# Altium integrated library TI Power Management Step-Up Regulator.IntLib: 226 symbols (part 1 of 11)
Pins are listed as number, name and electrical type; pins without a type are passive.

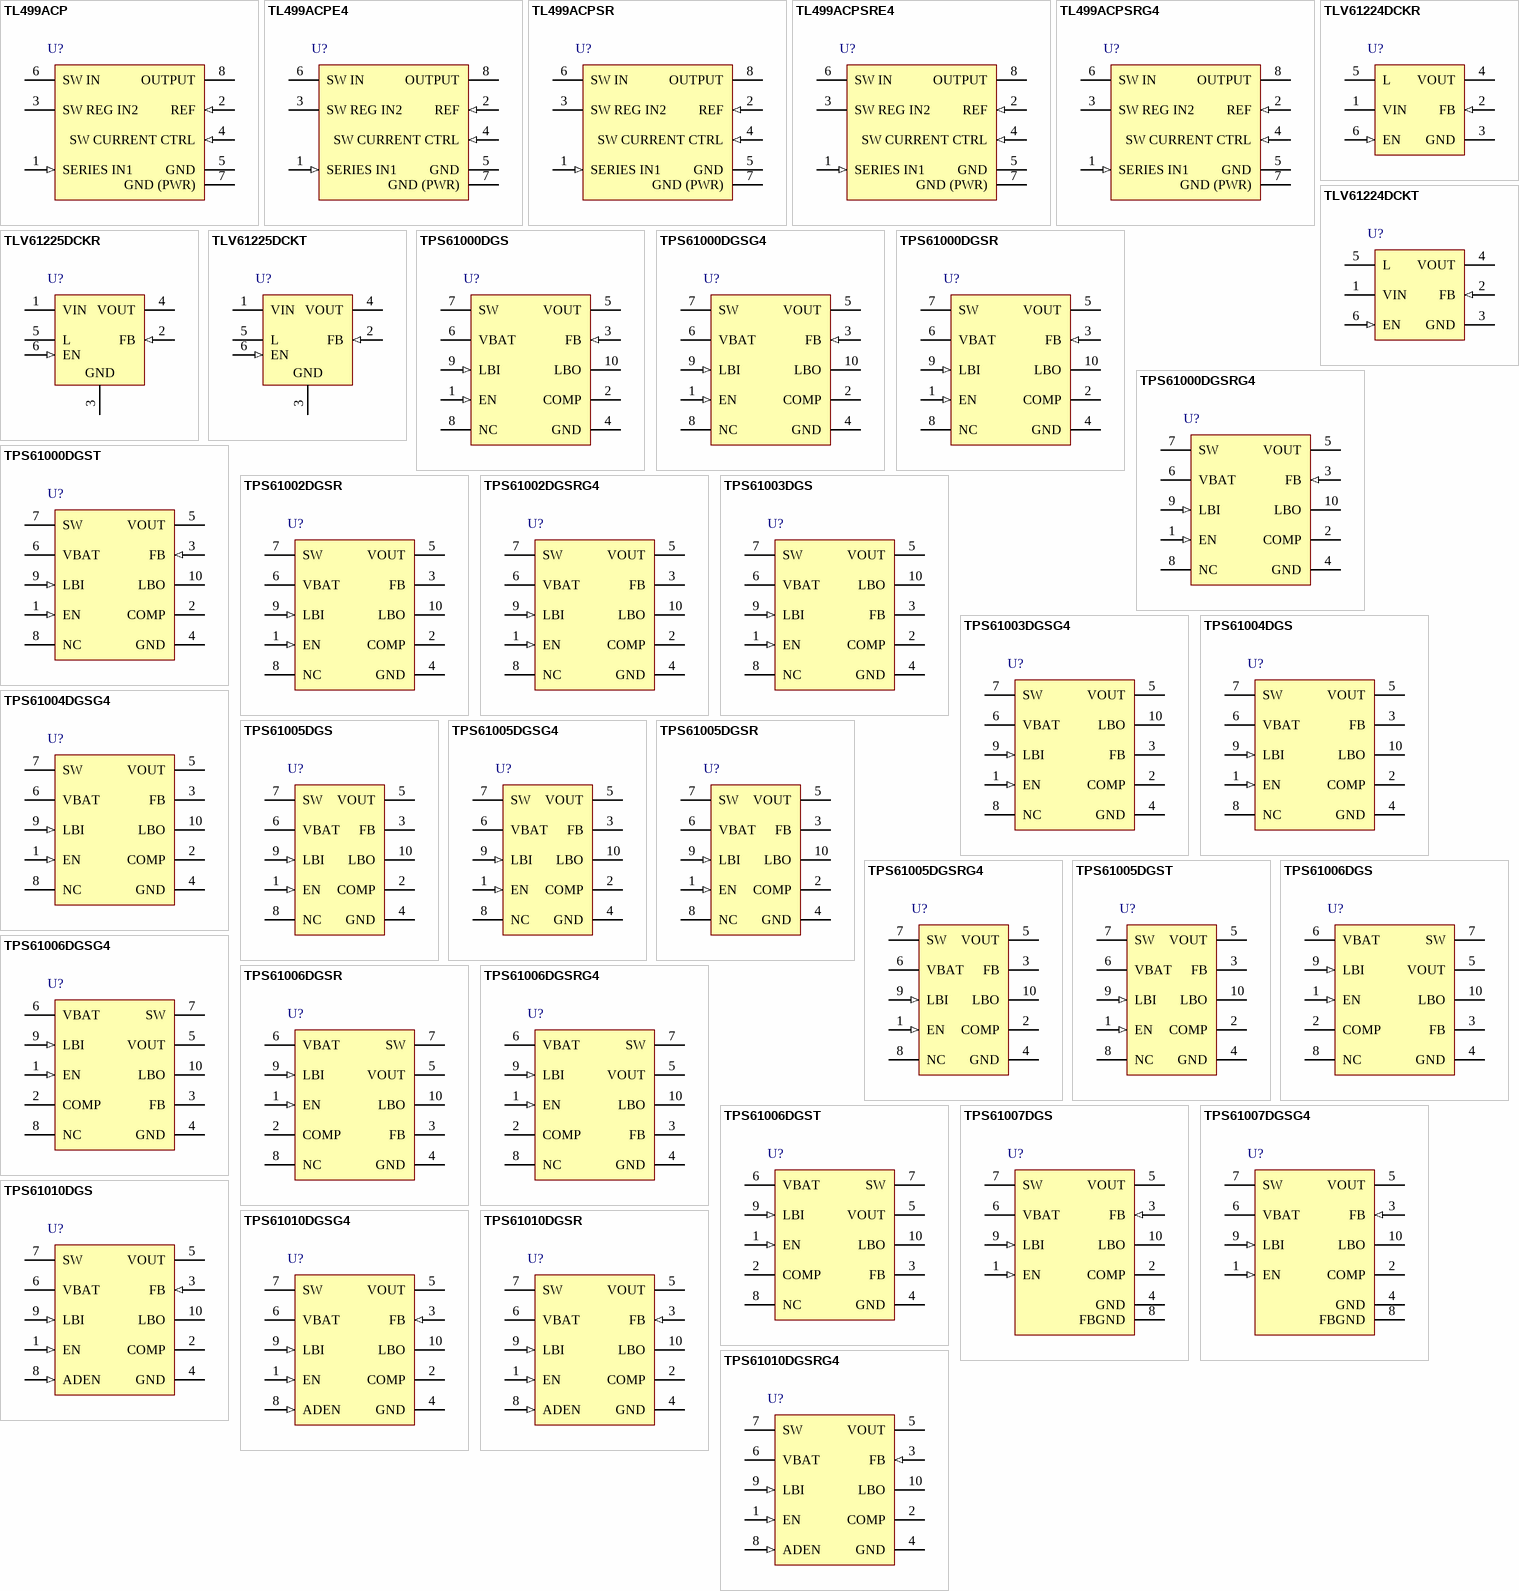
[diagram p0: symbols TL499ACP to TPS61010DGSRG4]

## TL499ACP
designator U?
Boost Supply Controller with 1.1 to 10 V Input and 2.9 to 30 V Output, -20 to 85 degC, 8-Pin PDIP (P), Pb-Free (RoHS); Manufacturer: Texas Instruments; PartNumber: TL499ACP; SubFamily: Step-Up Regulator; Vin(Max)(V): 10; Vin(Min)(V): 1.1; Vout(Max)(V): 30; Vout(Min)(V): 2.9; DatasheetVersion: SLVS029G; PackageVersion: revE, Apr-2010; PackageReference: P8; PackageDescription: 8-Pin Plastic Dual-In-Line Package, Row Spacing 7.62 mm, Pitch 2.54 mm; Supplier 1: Digi-Key; Supplier Part Number 1: TL499ACP-ND; Supplier 2: Newark; Supplier Part Number 2: 08F9464; Supplier 3: Mouser; Supplier Part Number 3: 595-TL499ACP; Eco-Plan: Pb-Free (RoHS); Topology: Boost; Mounting Technology: Through Hole; Code_JEDEC: MS-001-BA; ComponentLink1Description: Datasheet; ComponentLink1URL: http://www.ti.com/general/docs/lit/getliterature.tsp?genericPartNumber=TL499A&fileType=pdf; ComponentLink2Description: Package Specification; ComponentLink2URL: http://www.ti.com/lit/ml/mpdi001b/mpdi001b.pdf
footprint P8 (DIP, 8-Leads, Row Spacing 7.62mm, Pitch 2.54mm, Body 9.6x6.4mm)
pins: 1 SERIES IN1 (in), 2 REF (in), 3 SW REG IN2 (power), 4 SW CURRENT CTRL (in), 5 GND (power), 6 SW IN (power), 7 GND (PWR) (power), 8 OUTPUT (power)

## TL499ACPE4
designator U?
Boost Power-Supply Controller with 1.1 to 10 V Input and 2.9 to 30 V Output, -20 to 85 degC, 8-Pin PDIP (P), Pb-Free (RoHS); Manufacturer: Texas Instruments; PartNumber: TL499ACPE4; SubFamily: Step-Up Regulator; Vin(Max)(V): 10; Vin(Min)(V): 1.1; Vout(Max)(V): 30; Vout(Min)(V): 2.9; DatasheetVersion: SLVS029G; PackageVersion: revE, Apr-2010; PackageReference: P8; PackageDescription: 8-Pin Plastic Dual-In-Line Package, Row Spacing 7.62 mm, Pitch 2.54 mm; Supplier 1: Digi-Key; Supplier Part Number 1: TL499ACPE4-ND; Supplier 2: Newark; Supplier Part Number 2: 63K6529; Supplier 3: Mouser; Supplier Part Number 3: 595-TL499ACPE4; Eco-Plan: Pb-Free (RoHS); Topology: Boost; Mounting Technology: Through Hole; Code_JEDEC: MS-001-BA; ComponentLink1Description: Datasheet; ComponentLink1URL: http://www.ti.com/general/docs/lit/getliterature.tsp?genericPartNumber=TL499A&fileType=pdf; ComponentLink2Description: Package Specification; ComponentLink2URL: http://www.ti.com/lit/ml/mpdi001b/mpdi001b.pdf
footprint P8 (DIP, 8-Leads, Row Spacing 7.62mm, Pitch 2.54mm, Body 9.6x6.4mm)
pins: 1 SERIES IN1 (in), 2 REF (in), 3 SW REG IN2 (power), 4 SW CURRENT CTRL (in), 5 GND (power), 6 SW IN (power), 7 GND (PWR) (power), 8 OUTPUT (power)

## TL499ACPSR
designator U?
Boost Power-Supply Controller with 1.1 to 10 V Input and 2.9 to 30 V Output, -20 to 85 degC, 8-Pin PDIP (P), Green (RoHS & no Sb/Br); Manufacturer: Texas Instruments; PartNumber: TL499ACPSR; SubFamily: Step-Up Regulator; Vin(Max)(V): 10; Vin(Min)(V): 1.1; Vout(Max)(V): 30; Vout(Min)(V): 2.9; DatasheetVersion: SLVS029G; PackageVersion: revC, Mar-2003; PackageReference: PS8; PackageDescription: 8-Pin Plastic Small Outline Package, 6.2 x 5.3 mm, Pitch 1.27 mm Pitch; Supplier 1: Digi-Key; Supplier Part Number 1: 296-17592-2-ND; Supplier 2: Digi-Key; Supplier Part Number 2: 296-17592-1-ND; Supplier 3: Digi-Key; Supplier Part Number 3: 296-17592-6-ND; Supplier 4: Newark; Supplier Part Number 4: 32H6527; Supplier 5: Mouser; Supplier Part Number 5: 595-TL499ACPSR; Eco-Plan: Green (RoHS & no Sb/Br); Topology: Boost; Mounting Technology: Surface Mount; ComponentLink1Description: Datasheet; ComponentLink1URL: http://www.ti.com/general/docs/lit/getliterature.tsp?genericPartNumber=TL499A&fileType=pdf; ComponentLink2Description: Package Specification; ComponentLink2URL: http://www.ti.com/litv/pdf/msop001a
footprint PS8_N (SOP, 8-Leads, Body 6.2x5.3mm, Pitch 1.27mm, IPC Medium Density)
footprint PS8_L (SOP, 8-Leads, Body 6.2x5.3mm, Pitch 1.27mm, IPC High Density)
footprint PS8_M (SOP, 8-Leads, Body 6.2x5.3mm, Pitch 1.27mm, IPC Low Density)
pins: 1 SERIES IN1 (in), 2 REF (in), 3 SW REG IN2 (power), 4 SW CURRENT CTRL (in), 5 GND (power), 6 SW IN (power), 7 GND (PWR) (power), 8 OUTPUT (power)

## TL499ACPSRE4
designator U?
Boost Power-Supply Controller with 1.1 to 10 V Input and 2.9 to 30 V Output, -20 to 85 degC, 8-Pin SO (PS), Green (RoHS & no Sb/Br); Manufacturer: Texas Instruments; PartNumber: TL499ACPSRE4; SubFamily: Step-Up Regulator; Vin(Max)(V): 10; Vin(Min)(V): 1.1; Vout(Max)(V): 30; Vout(Min)(V): 2.9; DatasheetVersion: SLVS029G; PackageVersion: revC, Mar-2003; PackageReference: PS8; PackageDescription: 8-Pin Plastic Small Outline Package, 6.2 x 5.3 mm, Pitch 1.27 mm Pitch; Supplier 1: Digi-Key; Supplier Part Number 1: TL499ACPSRE4-ND; Supplier 2: Newark; Supplier Part Number 2: 37K4547; Supplier 3: Mouser; Supplier Part Number 3: 595-TL499ACPSRE4; Eco-Plan: Green (RoHS & no Sb/Br); Topology: Boost; Mounting Technology: Surface Mount; ComponentLink1Description: Datasheet; ComponentLink1URL: http://www.ti.com/general/docs/lit/getliterature.tsp?genericPartNumber=TL499A&fileType=pdf; ComponentLink2Description: Package Specification; ComponentLink2URL: http://www.ti.com/litv/pdf/msop001a
footprint PS8_N (SOP, 8-Leads, Body 6.2x5.3mm, Pitch 1.27mm, IPC Medium Density)
footprint PS8_L (SOP, 8-Leads, Body 6.2x5.3mm, Pitch 1.27mm, IPC High Density)
footprint PS8_M (SOP, 8-Leads, Body 6.2x5.3mm, Pitch 1.27mm, IPC Low Density)
pins: 1 SERIES IN1 (in), 2 REF (in), 3 SW REG IN2 (power), 4 SW CURRENT CTRL (in), 5 GND (power), 6 SW IN (power), 7 GND (PWR) (power), 8 OUTPUT (power)

## TL499ACPSRG4
designator U?
Boost Power-Supply Controller with 1.1 to 10 V Input and 2.9 to 30 V Output, -20 to 85 degC, 8-Pin SO (PS), Green (RoHS & no Sb/Br); Manufacturer: Texas Instruments; PartNumber: TL499ACPSRG4; SubFamily: Step-Up Regulator; Vin(Max)(V): 10; Vin(Min)(V): 1.1; Vout(Max)(V): 30; Vout(Min)(V): 2.9; DatasheetVersion: SLVS029G; PackageVersion: revC, Mar-2003; PackageReference: PS8; PackageDescription: 8-Pin Plastic Small Outline Package, 6.2 x 5.3 mm, Pitch 1.27 mm Pitch; Supplier 1: Digi-Key; Supplier Part Number 1: TL499ACPSRG4-ND; Supplier 2: Newark; Supplier Part Number 2: 46M9284; Supplier 3: Mouser; Supplier Part Number 3: 595-TL499ACPSRG4; Eco-Plan: Green (RoHS & no Sb/Br); Topology: Boost; Mounting Technology: Surface Mount; ComponentLink1Description: Datasheet; ComponentLink1URL: http://www.ti.com/general/docs/lit/getliterature.tsp?genericPartNumber=TL499A&fileType=pdf; ComponentLink2Description: Package Specification; ComponentLink2URL: http://www.ti.com/litv/pdf/msop001a
footprint PS8_N (SOP, 8-Leads, Body 6.2x5.3mm, Pitch 1.27mm, IPC Medium Density)
footprint PS8_L (SOP, 8-Leads, Body 6.2x5.3mm, Pitch 1.27mm, IPC High Density)
footprint PS8_M (SOP, 8-Leads, Body 6.2x5.3mm, Pitch 1.27mm, IPC Low Density)
pins: 1 SERIES IN1 (in), 2 REF (in), 3 SW REG IN2 (power), 4 SW CURRENT CTRL (in), 5 GND (power), 6 SW IN (power), 7 GND (PWR) (power), 8 OUTPUT (power)

## TLV61224DCKR
designator U?
Voltage Converter with 0.7 to 3 V Input, -40 to 85 degC, 6-Pin SC70 (DCK), Green (RoHS & no Sb/Br); Manufacturer: Texas Instruments; PartNumber: TLV61224DCKR; SubFamily: Step-Up Regulator; Switching Frequency(Max)(kHz): 2000; Vin(Max)(V): 3; Vin(Min)(V): 0.7; DatasheetVersion: SLVSAM7; PackageVersion: revG, Jan-2007; PackageReference: DCK6; PackageDescription: 6-Pin Plastic Small-Outline Package, 2 x 1.3 mm Body, 0.65 mm Pitch, 2.1 mm Lead Span; Supplier 1: Digi-Key; Supplier Part Number 1: TLV61224DCKR-ND; Supplier 2: Mouser; Supplier Part Number 2: 595-TLV61224DCKR; Eco-Plan: Green (RoHS & no Sb/Br); Vout(Max)(V): 3; Mounting Technology: Surface Mount; Code_JEDEC: MO-203-AB; ComponentLink1Description: Datasheet; ComponentLink1URL: http://www.ti.com/general/docs/lit/getliterature.tsp?genericPartNumber=TLV61224&fileType=pdf; ComponentLink2Description: Package Specification; ComponentLink2URL: http://www.ti.com/litv/pdf/mpds114c
footprint DCK6_N (SOT23, 6-Leads, Body 2x1.3mm, Pitch 0.65mm, Lead Span 2.1mm, IPC Medium Density)
footprint DCK6_L (SOT23, 6-Leads, Body 2x1.3mm, Pitch 0.65mm, Lead Span 2.1mm, IPC High Density)
footprint DCK6_M (SOT23, 6-Leads, Body 2x1.3mm, Pitch 0.65mm, Lead Span 2.1mm, IPC Low Density)
pins: 1 VIN (power) "Boost converter input voltage", 2 FB (in) "Output voltage sense input. Must be connected to VOUT.", 3 GND (power) "Control / logic and power ground", 4 VOUT (power) "Boost converter output voltage", 5 L (power) "Connection for Inductor", 6 EN (in) "Enable input (1: enabled, 0: disabled). Must be actively tied high or low."

## TLV61224DCKT
designator U?
Voltage Converter with 0.7 to 3 V Input, -40 to 85 degC, 6-Pin SC70 (DCK), Green (RoHS & no Sb/Br); Manufacturer: Texas Instruments; PartNumber: TLV61224DCKT; SubFamily: Step-Up Regulator; Switching Frequency(Max)(kHz): 2000; Vin(Max)(V): 3; Vin(Min)(V): 0.7; DatasheetVersion: SLVSAM7; PackageVersion: revG, Jan-2007; PackageReference: DCK6; PackageDescription: 6-Pin Plastic Small-Outline Package, 2 x 1.3 mm Body, 0.65 mm Pitch, 2.1 mm Lead Span; Supplier 1: Digi-Key; Supplier Part Number 1: 296-28339-2-ND; Supplier 2: Digi-Key; Supplier Part Number 2: 296-28339-1-ND; Supplier 3: Digi-Key; Supplier Part Number 3: 296-28339-6-ND; Supplier 4: Mouser; Supplier Part Number 4: 595-TLV61224DCKT; Eco-Plan: Green (RoHS & no Sb/Br); Vout(Max)(V): 3; Mounting Technology: Surface Mount; Code_JEDEC: MO-203-AB; ComponentLink1Description: Datasheet; ComponentLink1URL: http://www.ti.com/general/docs/lit/getliterature.tsp?genericPartNumber=TLV61224&fileType=pdf; ComponentLink2Description: Package Specification; ComponentLink2URL: http://www.ti.com/litv/pdf/mpds114c
footprint DCK6_N (SOT23, 6-Leads, Body 2x1.3mm, Pitch 0.65mm, Lead Span 2.1mm, IPC Medium Density)
footprint DCK6_L (SOT23, 6-Leads, Body 2x1.3mm, Pitch 0.65mm, Lead Span 2.1mm, IPC High Density)
footprint DCK6_M (SOT23, 6-Leads, Body 2x1.3mm, Pitch 0.65mm, Lead Span 2.1mm, IPC Low Density)
pins: 1 VIN (power) "Boost converter input voltage", 2 FB (in) "Output voltage sense input. Must be connected to VOUT.", 3 GND (power) "Control / logic and power ground", 4 VOUT (power) "Boost converter output voltage", 5 L (power) "Connection for Inductor", 6 EN (in) "Enable input (1: enabled, 0: disabled). Must be actively tied high or low."

## TLV61225DCKR
designator U?
Voltage Converter with 0.7 to 3.3 V Input, -40 to 85 degC, 6-Pin SC70 (DCK), Green (RoHS & no Sb/Br); Manufacturer: Texas Instruments; PartNumber: TLV61225DCKR; Regulated Outputs(#): 1; SubFamily: Step-Up Regulator; Switching Frequency(Max)(kHz): 2000; Vin(Max)(V): 3.3; Vin(Min)(V): 0.7; DatasheetVersion: SLVSAF0; PackageVersion: revG, Jan-2007; PackageReference: DCK6; PackageDescription: 6-Pin Plastic Small-Outline Package, 2 x 1.3 mm Body, 0.65 mm Pitch, 2.1 mm Lead Span; Supplier 1: Digi-Key; Supplier Part Number 1: TLV61225DCKR-ND; Supplier 2: Mouser; Supplier Part Number 2: 595-TLV61225DCKR; Eco-Plan: Green (RoHS & no Sb/Br); Vout(Max)(V): 3.3; Mounting Technology: Surface Mount; Code_JEDEC: MO-203-AB; ComponentLink1Description: Datasheet; ComponentLink1URL: http://www.ti.com/general/docs/lit/getliterature.tsp?genericPartNumber=TLV61225&fileType=pdf; ComponentLink2Description: Package Specification; ComponentLink2URL: http://www.ti.com/litv/pdf/mpds114c
footprint DCK6_N (SOT23, 6-Leads, Body 2x1.3mm, Pitch 0.65mm, Lead Span 2.1mm, IPC Medium Density)
footprint DCK6_L (SOT23, 6-Leads, Body 2x1.3mm, Pitch 0.65mm, Lead Span 2.1mm, IPC High Density)
footprint DCK6_M (SOT23, 6-Leads, Body 2x1.3mm, Pitch 0.65mm, Lead Span 2.1mm, IPC Low Density)
pins: 1 VIN (power) "Boost converter input voltage", 2 FB (in) "Output voltage sense input. Must be connected to VOUT.", 3 GND (power) "Control / logic and power ground", 4 VOUT (power) "Boost converter output voltage", 5 L (power) "Connection for Inductor", 6 EN (in) "Enable input (1: enabled, 0: disabled). Must be actively tied high or low."

## TLV61225DCKT
designator U?
Voltage Converter with 0.7 to 3.3 V Input, -40 to 85 degC, 6-Pin SC70 (DCK), Green (RoHS & no Sb/Br); Manufacturer: Texas Instruments; PartNumber: TLV61225DCKT; Regulated Outputs(#): 1; SubFamily: Step-Up Regulator; Switching Frequency(Max)(kHz): 2000; Vin(Max)(V): 3.3; Vin(Min)(V): 0.7; DatasheetVersion: SLVSAF0; PackageVersion: revG, Jan-2007; PackageReference: DCK6; PackageDescription: 6-Pin Plastic Small-Outline Package, 2 x 1.3 mm Body, 0.65 mm Pitch, 2.1 mm Lead Span; Supplier 1: Digi-Key; Supplier Part Number 1: 296-32405-2-ND; Supplier 2: Digi-Key; Supplier Part Number 2: 296-32405-1-ND; Supplier 3: Digi-Key; Supplier Part Number 3: 296-32405-6-ND; Supplier 4: Newark; Supplier Part Number 4: 24T4767; Supplier 5: Mouser; Supplier Part Number 5: 595-TLV61225DCKT; Eco-Plan: Green (RoHS & no Sb/Br); Vout(Max)(V): 3.3; Mounting Technology: Surface Mount; Code_JEDEC: MO-203-AB; ComponentLink1Description: Datasheet; ComponentLink1URL: http://www.ti.com/general/docs/lit/getliterature.tsp?genericPartNumber=TLV61225&fileType=pdf; ComponentLink2Description: Package Specification; ComponentLink2URL: http://www.ti.com/litv/pdf/mpds114c
footprint DCK6_N (SOT23, 6-Leads, Body 2x1.3mm, Pitch 0.65mm, Lead Span 2.1mm, IPC Medium Density)
footprint DCK6_L (SOT23, 6-Leads, Body 2x1.3mm, Pitch 0.65mm, Lead Span 2.1mm, IPC High Density)
footprint DCK6_M (SOT23, 6-Leads, Body 2x1.3mm, Pitch 0.65mm, Lead Span 2.1mm, IPC Low Density)
pins: 1 VIN (power) "Boost converter input voltage", 2 FB (in) "Output voltage sense input. Must be connected to VOUT.", 3 GND (power) "Control / logic and power ground", 4 VOUT (power) "Boost converter output voltage", 5 L (power) "Connection for Inductor", 6 EN (in) "Enable input (1: enabled, 0: disabled). Must be actively tied high or low."

## TPS61000DGS
designator U?
Boost Voltage Converter with 0.8 to 3.3 V Input and 1.5 to 3.3 V Output, -40 to 85 degC, 10-Pin MSOP (DGS), Green (RoHS & no Sb/Br); Manufacturer: Texas Instruments; PartNumber: TPS61000DGS; Regulated Outputs(#): 1; SubFamily: Step-Up Regulator; Switching Frequency(Max)(kHz): 840; Vin(Max)(V): 3.3; Vin(Min)(V): 0.8; Vout(Min)(V): 1.5; DatasheetVersion: SLVS279C; PackageVersion: revC, Feb-2004; PackageReference: DGS10; PackageDescription: 10-Pin Thin Shrink Small Outline Package 0.5 mm Pitch; Supplier 1: Digi-Key; Supplier Part Number 1: 296-3217-5-ND; Supplier 2: Newark; Supplier Part Number 2: 19C9059; Supplier 3: Mouser; Supplier Part Number 3: 595-TPS61000DGS; Eco-Plan: Green (RoHS & no Sb/Br); Topology: Boost; Vout(Max)(V): 3.3; Mounting Technology: Surface Mount; Code_JEDEC: MO-187-BA; ComponentLink1Description: Datasheet; ComponentLink1URL: http://www.ti.com/general/docs/lit/getliterature.tsp?genericPartNumber=TPS61000&fileType=pdf; ComponentLink2Description: Package Specification; ComponentLink2URL: http://www.ti.com/litv/pdf/mpds373
footprint DGS10_N (TSSOP, 10-Leads, Body 3x3mm, Pitch 0.5mm, IPC Medium Density)
footprint DGS10_L (TSSOP, 10-Leads, Body 3x3mm, Pitch 0.5mm, IPC High Density)
footprint DGS10_M (TSSOP, 10-Leads, Body 3x3mm, Pitch 0.5mm, IPC Low Density)
pins: 1 EN (in) "Chip-enable input. The converter is switched on if EN is set high, and is switched off when EN is connected to ground (shutdown mode).", 2 COMP "Compensation of error amplifier. Connect R-C-C network to set frequency response of control loop. See the Application section for more details.", 3 FB (in) "Feedback input for adjustable output voltage (TPS61000 only). The output voltage is programmed depending on the values of resistors R1 and R2. For the fixed output voltage versions (TPS61000, TPS61002, TPS61003,TPS61004, (See Datasheet)", 4 GND (power) "Ground", 5 VOUT (power) "Output voltage. For the fixed output voltage versions, the integrated resistive divider is connected to this pin.", 6 VBAT (power) "Supply pin", 7 SW (power) "Switch input pin. The node between inductor and anode of the rectifier diode is connected to this pin.", 8 NC "Not connected (TPS61000, TPS61002, TPS61003, TPS61004, TPS61005, TPS61006). A ground pin for the feedback resistor divider for the TPS61007 only.", 9 LBI (in) "Low-battery detector input. A low-battery signal is generated at the LBO pin when the voltage on LBI drops below the threshold of 500 mV. Connect LBI to GND or VBAT if the low-battery detector function is not used. Do not (See Datasheet)", 10 LBO (hiz) "Open-drain low-battery detector output. This pin is pulled low if the voltage on LBI drops below the threshold of 500 mV. A pullup resistor should be connected between LBO and VOUT."

## TPS61000DGSG4
designator U?
Boost Adjustable Converter with 0.8 to 3.3 V Input and 1.5 to 3.3 V Output, -40 to 85 degC, 10-Pin MSOP (DGS), Green (RoHS & no Sb/Br); Manufacturer: Texas Instruments; PartNumber: TPS61000DGSG4; Regulated Outputs(#): 1; SubFamily: Step-Up Regulator; Switching Frequency(Max)(kHz): 840; Vin(Max)(V): 3.3; Vin(Min)(V): 0.8; Vout(Min)(V): 1.5; DatasheetVersion: SLVS279C; PackageVersion: revC, Feb-2004; PackageReference: DGS10; PackageDescription: 10-Pin Thin Shrink Small Outline Package 0.5 mm Pitch; Supplier 1: Digi-Key; Supplier Part Number 1: TPS61000DGSG4-ND; Supplier 2: Farnell; Supplier Part Number 2: 1214399; Supplier 3: Newark; Supplier Part Number 3: 70K5751; Supplier 4: Mouser; Supplier Part Number 4: 595-TPS61000DGSG4; Eco-Plan: Green (RoHS & no Sb/Br); Topology: Boost; Vout(Max)(V): 3.3; Mounting Technology: Surface Mount; Code_JEDEC: MO-187-BA; ComponentLink1Description: Datasheet; ComponentLink1URL: http://www.ti.com/general/docs/lit/getliterature.tsp?genericPartNumber=TPS61000&fileType=pdf; ComponentLink2Description: Package Specification; ComponentLink2URL: http://www.ti.com/litv/pdf/mpds373
footprint DGS10_N (TSSOP, 10-Leads, Body 3x3mm, Pitch 0.5mm, IPC Medium Density)
footprint DGS10_L (TSSOP, 10-Leads, Body 3x3mm, Pitch 0.5mm, IPC High Density)
footprint DGS10_M (TSSOP, 10-Leads, Body 3x3mm, Pitch 0.5mm, IPC Low Density)
pins: 1 EN (in) "Chip-enable input. The converter is switched on if EN is set high, and is switched off when EN is connected to ground (shutdown mode).", 2 COMP "Compensation of error amplifier. Connect R-C-C network to set frequency response of control loop. See the Application section for more details.", 3 FB (in) "Feedback input for adjustable output voltage (TPS61000 only). The output voltage is programmed depending on the values of resistors R1 and R2. For the fixed output voltage versions (TPS61000, TPS61002, TPS61003,TPS61004, (See Datasheet)", 4 GND (power) "Ground", 5 VOUT (power) "Output voltage. For the fixed output voltage versions, the integrated resistive divider is connected to this pin.", 6 VBAT (power) "Supply pin", 7 SW (power) "Switch input pin. The node between inductor and anode of the rectifier diode is connected to this pin.", 8 NC "Not connected (TPS61000, TPS61002, TPS61003, TPS61004, TPS61005, TPS61006). A ground pin for the feedback resistor divider for the TPS61007 only.", 9 LBI (in) "Low-battery detector input. A low-battery signal is generated at the LBO pin when the voltage on LBI drops below the threshold of 500 mV. Connect LBI to GND or VBAT if the low-battery detector function is not used. Do not (See Datasheet)", 10 LBO (hiz) "Open-drain low-battery detector output. This pin is pulled low if the voltage on LBI drops below the threshold of 500 mV. A pullup resistor should be connected between LBO and VOUT."

## TPS61000DGSR
designator U?
Boost Adjustable Converter with 0.8 to 3.3 V Input and 1.5 to 3.3 V Output, -40 to 85 degC, 10-Pin MSOP (DGS), Green (RoHS & no Sb/Br); Manufacturer: Texas Instruments; PartNumber: TPS61000DGSR; Regulated Outputs(#): 1; SubFamily: Step-Up Regulator; Switching Frequency(Max)(kHz): 840; Vin(Max)(V): 3.3; Vin(Min)(V): 0.8; Vout(Min)(V): 1.5; DatasheetVersion: SLVS279C; PackageVersion: revC, Feb-2004; PackageReference: DGS10; PackageDescription: 10-Pin Thin Shrink Small Outline Package 0.5 mm Pitch; Supplier 1: Digi-Key; Supplier Part Number 1: TPS61000DGSR-ND; Supplier 2: Newark; Supplier Part Number 2: 77C0642; Supplier 3: Mouser; Supplier Part Number 3: 595-TPS61000DGSR; Eco-Plan: Green (RoHS & no Sb/Br); Topology: Boost; Vout(Max)(V): 3.3; Mounting Technology: Surface Mount; Code_JEDEC: MO-187-BA; ComponentLink1Description: Datasheet; ComponentLink1URL: http://www.ti.com/general/docs/lit/getliterature.tsp?genericPartNumber=TPS61000&fileType=pdf; ComponentLink2Description: Package Specification; ComponentLink2URL: http://www.ti.com/litv/pdf/mpds373
footprint DGS10_N (TSSOP, 10-Leads, Body 3x3mm, Pitch 0.5mm, IPC Medium Density)
footprint DGS10_L (TSSOP, 10-Leads, Body 3x3mm, Pitch 0.5mm, IPC High Density)
footprint DGS10_M (TSSOP, 10-Leads, Body 3x3mm, Pitch 0.5mm, IPC Low Density)
pins: 1 EN (in) "Chip-enable input. The converter is switched on if EN is set high, and is switched off when EN is connected to ground (shutdown mode).", 2 COMP "Compensation of error amplifier. Connect R-C-C network to set frequency response of control loop. See the Application section for more details.", 3 FB (in) "Feedback input for adjustable output voltage (TPS61000 only). The output voltage is programmed depending on the values of resistors R1 and R2. For the fixed output voltage versions (TPS61000, TPS61002, TPS61003,TPS61004, (See Datasheet)", 4 GND (power) "Ground", 5 VOUT (power) "Output voltage. For the fixed output voltage versions, the integrated resistive divider is connected to this pin.", 6 VBAT (power) "Supply pin", 7 SW (power) "Switch input pin. The node between inductor and anode of the rectifier diode is connected to this pin.", 8 NC "Not connected (TPS61000, TPS61002, TPS61003, TPS61004, TPS61005, TPS61006). A ground pin for the feedback resistor divider for the TPS61007 only.", 9 LBI (in) "Low-battery detector input. A low-battery signal is generated at the LBO pin when the voltage on LBI drops below the threshold of 500 mV. Connect LBI to GND or VBAT if the low-battery detector function is not used. Do not (See Datasheet)", 10 LBO (hiz) "Open-drain low-battery detector output. This pin is pulled low if the voltage on LBI drops below the threshold of 500 mV. A pullup resistor should be connected between LBO and VOUT."

## TPS61000DGSRG4
designator U?
Boost Adjustable Converter with 0.8 to 3.3 V Input and 1.5 to 3.3 V Output, -40 to 85 degC, 10-Pin MSOP (DGS), Green (RoHS & no Sb/Br); Manufacturer: Texas Instruments; PartNumber: TPS61000DGSRG4; Regulated Outputs(#): 1; SubFamily: Step-Up Regulator; Switching Frequency(Max)(kHz): 840; Vin(Max)(V): 3.3; Vin(Min)(V): 0.8; Vout(Min)(V): 1.5; DatasheetVersion: SLVS279C; PackageVersion: revC, Feb-2004; PackageReference: DGS10; PackageDescription: 10-Pin Thin Shrink Small Outline Package 0.5 mm Pitch; Supplier 1: Digi-Key; Supplier Part Number 1: TPS61000DGSRG4-ND; Supplier 2: Newark; Supplier Part Number 2: 71J8177; Supplier 3: Mouser; Supplier Part Number 3: 595-TPS61000DGSRG4; Eco-Plan: Green (RoHS & no Sb/Br); Topology: Boost; Vout(Max)(V): 3.3; Mounting Technology: Surface Mount; Code_JEDEC: MO-187-BA; ComponentLink1Description: Datasheet; ComponentLink1URL: http://www.ti.com/general/docs/lit/getliterature.tsp?genericPartNumber=TPS61000&fileType=pdf; ComponentLink2Description: Package Specification; ComponentLink2URL: http://www.ti.com/litv/pdf/mpds373
footprint DGS10_N (TSSOP, 10-Leads, Body 3x3mm, Pitch 0.5mm, IPC Medium Density)
footprint DGS10_L (TSSOP, 10-Leads, Body 3x3mm, Pitch 0.5mm, IPC High Density)
footprint DGS10_M (TSSOP, 10-Leads, Body 3x3mm, Pitch 0.5mm, IPC Low Density)
pins: 1 EN (in) "Chip-enable input. The converter is switched on if EN is set high, and is switched off when EN is connected to ground (shutdown mode).", 2 COMP "Compensation of error amplifier. Connect R-C-C network to set frequency response of control loop. See the Application section for more details.", 3 FB (in) "Feedback input for adjustable output voltage (TPS61000 only). The output voltage is programmed depending on the values of resistors R1 and R2. For the fixed output voltage versions (TPS61000, TPS61002, TPS61003,TPS61004, (See Datasheet)", 4 GND (power) "Ground", 5 VOUT (power) "Output voltage. For the fixed output voltage versions, the integrated resistive divider is connected to this pin.", 6 VBAT (power) "Supply pin", 7 SW (power) "Switch input pin. The node between inductor and anode of the rectifier diode is connected to this pin.", 8 NC "Not connected (TPS61000, TPS61002, TPS61003, TPS61004, TPS61005, TPS61006). A ground pin for the feedback resistor divider for the TPS61007 only.", 9 LBI (in) "Low-battery detector input. A low-battery signal is generated at the LBO pin when the voltage on LBI drops below the threshold of 500 mV. Connect LBI to GND or VBAT if the low-battery detector function is not used. Do not (See Datasheet)", 10 LBO (hiz) "Open-drain low-battery detector output. This pin is pulled low if the voltage on LBI drops below the threshold of 500 mV. A pullup resistor should be connected between LBO and VOUT."

## TPS61000DGST
designator U?
Boost Adjustable Converter with 0.8 to 3.3 V Input and 1.5 to 3.3 V Output, -40 to 85 degC, 10-Pin MSOP (DGS); Manufacturer: Texas Instruments; PartNumber: TPS61000DGST; Regulated Outputs(#): 1; SubFamily: Step-Up Regulator; Switching Frequency(Max)(kHz): 840; Vin(Max)(V): 3.3; Vin(Min)(V): 0.8; Vout(Min)(V): 1.5; DatasheetVersion: SLVS279C; PackageVersion: revC, Feb-2004; PackageReference: DGS10; PackageDescription: 10-Pin Thin Shrink Small Outline Package 0.5 mm Pitch; Supplier 1: Mouser; Supplier Part Number 1: N/A; Topology: Boost; Vout(Max)(V): 3.3; Mounting Technology: Surface Mount; Code_JEDEC: MO-187-BA; ComponentLink1Description: Datasheet; ComponentLink1URL: http://www.ti.com/general/docs/lit/getliterature.tsp?genericPartNumber=TPS61000&fileType=pdf; ComponentLink2Description: Package Specification; ComponentLink2URL: http://www.ti.com/litv/pdf/mpds373
footprint DGS10_N (TSSOP, 10-Leads, Body 3x3mm, Pitch 0.5mm, IPC Medium Density)
footprint DGS10_L (TSSOP, 10-Leads, Body 3x3mm, Pitch 0.5mm, IPC High Density)
footprint DGS10_M (TSSOP, 10-Leads, Body 3x3mm, Pitch 0.5mm, IPC Low Density)
pins: 1 EN (in) "Chip-enable input. The converter is switched on if EN is set high, and is switched off when EN is connected to ground (shutdown mode).", 2 COMP "Compensation of error amplifier. Connect R-C-C network to set frequency response of control loop. See the Application section for more details.", 3 FB (in) "Feedback input for adjustable output voltage (TPS61000 only). The output voltage is programmed depending on the values of resistors R1 and R2. For the fixed output voltage versions (TPS61000, TPS61002, TPS61003,TPS61004, (See Datasheet)", 4 GND (power) "Ground", 5 VOUT (power) "Output voltage. For the fixed output voltage versions, the integrated resistive divider is connected to this pin.", 6 VBAT (power) "Supply pin", 7 SW (power) "Switch input pin. The node between inductor and anode of the rectifier diode is connected to this pin.", 8 NC "Not connected (TPS61000, TPS61002, TPS61003, TPS61004, TPS61005, TPS61006). A ground pin for the feedback resistor divider for the TPS61007 only.", 9 LBI (in) "Low-battery detector input. A low-battery signal is generated at the LBO pin when the voltage on LBI drops below the threshold of 500 mV. Connect LBI to GND or VBAT if the low-battery detector function is not used. Do not (See Datasheet)", 10 LBO (hiz) "Open-drain low-battery detector output. This pin is pulled low if the voltage on LBI drops below the threshold of 500 mV. A pullup resistor should be connected between LBO and VOUT."

## TPS61002DGSR
designator U?
Boost Fixed Converter with 0.8 to 1.8 V Input and 1.8 V Output, -40 to 85 degC, 10-Pin MSOP (DGS), Green (RoHS & no Sb/Br); Manufacturer: Texas Instruments; PartNumber: TPS61002DGSR; Preset Vout(V): 1.8; Regulated Outputs(#): 1; SubFamily: Step-Up Regulator; Switching Frequency(Max)(kHz): 840; Vin(Min)(V): 0.8; DatasheetVersion: SLVS279C; PackageVersion: revC, Feb-2004; PackageReference: DGS10; PackageDescription: 10-Pin Thin Shrink Small Outline Package 0.5 mm Pitch; Supplier 1: Digi-Key; Supplier Part Number 1: TPS61002DGSR-ND; Supplier 2: Newark; Supplier Part Number 2: 77C0645; Supplier 3: Mouser; Supplier Part Number 3: 595-TPS61002DGSR; Eco-Plan: Green (RoHS & no Sb/Br); Topology: Boost; Vin(Max)(V): 1.8; Vout(Max)(V): 1.8; Vout(Min)(V): 1.8; Mounting Technology: Surface Mount; Code_JEDEC: MO-187-BA; ComponentLink1Description: Datasheet; ComponentLink1URL: http://www.ti.com/general/docs/lit/getliterature.tsp?genericPartNumber=TPS61002&fileType=pdf; ComponentLink2Description: Package Specification; ComponentLink2URL: http://www.ti.com/litv/pdf/mpds373
footprint DGS10_N (TSSOP, 10-Leads, Body 3x3mm, Pitch 0.5mm, IPC Medium Density)
footprint DGS10_L (TSSOP, 10-Leads, Body 3x3mm, Pitch 0.5mm, IPC High Density)
footprint DGS10_M (TSSOP, 10-Leads, Body 3x3mm, Pitch 0.5mm, IPC Low Density)
pins: 1 EN (in) "Chip-enable input. The converter is switched on if EN is set high, and is switched off when EN is connected to ground (shutdown mode).", 2 COMP "Compensation of error amplifier. Connect R-C-C network to set frequency response of control loop. See the Application section for more details.", 3 FB "Feedback input for adjustable output voltage (TPS61000 only). The output voltage is programmed depending on the values of resistors R1 and R2. For the fixed output voltage versions (TPS61000, TPS61002, TPS61003, TPS61004, (See Datasheet)", 4 GND (power) "Ground", 5 VOUT (power) "Output voltage. For the fixed output voltage versions, the integrated resistive divider is connected to this pin.", 6 VBAT (power) "Supply pin", 7 SW (power) "Switch input pin. The node between inductor and anode of the rectifier diode is connected to this pin.", 8 NC "Not connected (TPS61000, TPS61002, TPS61003, TPS61004, TPS61005, TPS61006). A ground pin for the feedback resistor divider for the TPS61007 only.", 9 LBI (in) "Low-battery detector input. A low-battery signal is generated at the LBO pin when the voltage on LBI drops below the threshold of 500 mV. Connect LBI to GND or VBAT if the low-battery detector function is not used. Do not (See Datasheet)", 10 LBO (hiz) "Open-drain low-battery detector output. This pin is pulled low if the voltage on LBI drops below the threshold of 500 mV. A pullup resistor should be connected between LBO and VOUT."

## TPS61002DGSRG4
designator U?
Boost Fixed Converter with 0.8 to 1.8 V Input and 1.8 V Output, -40 to 85 degC, 10-Pin MSOP (DGS), Green (RoHS & no Sb/Br); Manufacturer: Texas Instruments; PartNumber: TPS61002DGSRG4; Preset Vout(V): 1.8; Regulated Outputs(#): 1; SubFamily: Step-Up Regulator; Switching Frequency(Max)(kHz): 840; Vin(Min)(V): 0.8; DatasheetVersion: SLVS279C; PackageVersion: revC, Feb-2004; PackageReference: DGS10; PackageDescription: 10-Pin Thin Shrink Small Outline Package 0.5 mm Pitch; Supplier 1: Digi-Key; Supplier Part Number 1: TPS61002DGSRG4-ND; Supplier 2: Newark; Supplier Part Number 2: 24K6010; Supplier 3: Mouser; Supplier Part Number 3: 595-TPS61002DGSRG4; Eco-Plan: Green (RoHS & no Sb/Br); Topology: Boost; Vin(Max)(V): 1.8; Vout(Max)(V): 1.8; Vout(Min)(V): 1.8; Mounting Technology: Surface Mount; Code_JEDEC: MO-187-BA; ComponentLink1Description: Datasheet; ComponentLink1URL: http://www.ti.com/general/docs/lit/getliterature.tsp?genericPartNumber=TPS61002&fileType=pdf; ComponentLink2Description: Package Specification; ComponentLink2URL: http://www.ti.com/litv/pdf/mpds373
footprint DGS10_N (TSSOP, 10-Leads, Body 3x3mm, Pitch 0.5mm, IPC Medium Density)
footprint DGS10_L (TSSOP, 10-Leads, Body 3x3mm, Pitch 0.5mm, IPC High Density)
footprint DGS10_M (TSSOP, 10-Leads, Body 3x3mm, Pitch 0.5mm, IPC Low Density)
pins: 1 EN (in) "Chip-enable input. The converter is switched on if EN is set high, and is switched off when EN is connected to ground (shutdown mode).", 2 COMP "Compensation of error amplifier. Connect R-C-C network to set frequency response of control loop. See the Application section for more details.", 3 FB "Feedback input for adjustable output voltage (TPS61000 only). The output voltage is programmed depending on the values of resistors R1 and R2. For the fixed output voltage versions (TPS61000, TPS61002, TPS61003, TPS61004, (See Datasheet)", 4 GND (power) "Ground", 5 VOUT (power) "Output voltage. For the fixed output voltage versions, the integrated resistive divider is connected to this pin.", 6 VBAT (power) "Supply pin", 7 SW (power) "Switch input pin. The node between inductor and anode of the rectifier diode is connected to this pin.", 8 NC "Not connected (TPS61000, TPS61002, TPS61003, TPS61004, TPS61005, TPS61006). A ground pin for the feedback resistor divider for the TPS61007 only.", 9 LBI (in) "Low-battery detector input. A low-battery signal is generated at the LBO pin when the voltage on LBI drops below the threshold of 500 mV. Connect LBI to GND or VBAT if the low-battery detector function is not used. Do not (See Datasheet)", 10 LBO (hiz) "Open-drain low-battery detector output. This pin is pulled low if the voltage on LBI drops below the threshold of 500 mV. A pullup resistor should be connected between LBO and VOUT."

## TPS61003DGS
designator U?
Boost Fixed Converter with 0.8 to 2.5 V Input and 2.5 V Output, -40 to 85 degC, 10-Pin MSOP (DGS), Green (RoHS & no Sb/Br); Manufacturer: Texas Instruments; PartNumber: TPS61003DGS; Preset Vout(V): 2.5; Regulated Outputs(#): 1; SubFamily: Step-Up Regulator; Switching Frequency(Max)(kHz): 840; Vin(Min)(V): 0.8; DatasheetVersion: SLVS279C; PackageVersion: revC, Feb-2004; PackageReference: DGS10; PackageDescription: 10-Pin Thin Shrink Small Outline Package 0.5 mm Pitch; Supplier 1: Digi-Key; Supplier Part Number 1: 296-3220-5-ND; Supplier 2: Newark; Supplier Part Number 2: 19C9062; Supplier 3: Mouser; Supplier Part Number 3: 595-TPS61003DGS; Eco-Plan: Green (RoHS & no Sb/Br); Topology: Boost; Vin(Max)(V): 2.5; Vout(Max)(V): 2.5; Vout(Min)(V): 2.5; Mounting Technology: Surface Mount; Code_JEDEC: MO-187-BA; ComponentLink1Description: Datasheet; ComponentLink1URL: http://www.ti.com/general/docs/lit/getliterature.tsp?genericPartNumber=TPS61003&fileType=pdf; ComponentLink2Description: Package Specification; ComponentLink2URL: http://www.ti.com/litv/pdf/mpds373
footprint DGS10_N (TSSOP, 10-Leads, Body 3x3mm, Pitch 0.5mm, IPC Medium Density)
footprint DGS10_L (TSSOP, 10-Leads, Body 3x3mm, Pitch 0.5mm, IPC High Density)
footprint DGS10_M (TSSOP, 10-Leads, Body 3x3mm, Pitch 0.5mm, IPC Low Density)
pins: 1 EN (in) "Chip-enable input. The converter is switched on if EN is set high, and is switched off when EN is connected to ground (shutdown mode).", 2 COMP "Compensation of error amplifier. Connect R-C-C network to set frequency response of control loop. See the Application section for more details.", 3 FB "Feedback input for adjustable output voltage (TPS61000 only). The output voltage is programmed depending on the values of resistors R1 and R2. For the fixed output voltage versions (TPS61000, TPS61002, TPS61003, TPS61004, (See Datasheet)", 4 GND (power) "Ground", 5 VOUT (power) "Output voltage. For the fixed output voltage versions, the integrated resistive divider is connected to this pin.", 6 VBAT (power) "Supply pin", 7 SW (power) "Switch input pin. The node between inductor and anode of the rectifier diode is connected to this pin.", 8 NC "Not connected (TPS61000, TPS61002, TPS61003, TPS61004, TPS61005, TPS61006). A ground pin for the feedback resistor divider for the TPS61007 only.", 9 LBI (in) "Low-battery detector input. A low-battery signal is generated at the LBO pin when the voltage on LBI drops below the threshold of 500 mV. Connect LBI to GND or VBAT if the low-battery detector function is not used. Do not (See Datasheet)", 10 LBO (hiz) "Open-drain low-battery detector output. This pin is pulled low if the voltage on LBI drops below the threshold of 500 mV. A pullup resistor should be connected between LBO and VOUT."

## TPS61003DGSG4
designator U?
Boost Fixed Converter with 0.8 to 2.5 V Input and 2.5 V Output, -40 to 85 degC, 10-Pin MSOP (DGS), Green (RoHS & no Sb/Br); Manufacturer: Texas Instruments; PartNumber: TPS61003DGSG4; Preset Vout(V): 2.5; Regulated Outputs(#): 1; SubFamily: Step-Up Regulator; Switching Frequency(Max)(kHz): 840; Vin(Min)(V): 0.8; DatasheetVersion: SLVS279C; PackageVersion: revC, Feb-2004; PackageReference: DGS10; PackageDescription: 10-Pin Thin Shrink Small Outline Package 0.5 mm Pitch; Supplier 1: Digi-Key; Supplier Part Number 1: TPS61003DGSG4-ND; Supplier 2: Newark; Supplier Part Number 2: 54K1710; Supplier 3: Mouser; Supplier Part Number 3: 595-TPS61003DGSG4; Eco-Plan: Green (RoHS & no Sb/Br); Topology: Boost; Vin(Max)(V): 2.5; Vout(Max)(V): 2.5; Vout(Min)(V): 2.5; Mounting Technology: Surface Mount; Code_JEDEC: MO-187-BA; ComponentLink1Description: Datasheet; ComponentLink1URL: http://www.ti.com/general/docs/lit/getliterature.tsp?genericPartNumber=TPS61003&fileType=pdf; ComponentLink2Description: Package Specification; ComponentLink2URL: http://www.ti.com/litv/pdf/mpds373
footprint DGS10_N (TSSOP, 10-Leads, Body 3x3mm, Pitch 0.5mm, IPC Medium Density)
footprint DGS10_L (TSSOP, 10-Leads, Body 3x3mm, Pitch 0.5mm, IPC High Density)
footprint DGS10_M (TSSOP, 10-Leads, Body 3x3mm, Pitch 0.5mm, IPC Low Density)
pins: 1 EN (in) "Chip-enable input. The converter is switched on if EN is set high, and is switched off when EN is connected to ground (shutdown mode).", 2 COMP "Compensation of error amplifier. Connect R-C-C network to set frequency response of control loop. See the Application section for more details.", 3 FB "Feedback input for adjustable output voltage (TPS61000 only). The output voltage is programmed depending on the values of resistors R1 and R2. For the fixed output voltage versions (TPS61000, TPS61002, TPS61003, TPS61004, (See Datasheet)", 4 GND (power) "Ground", 5 VOUT (power) "Output voltage. For the fixed output voltage versions, the integrated resistive divider is connected to this pin.", 6 VBAT (power) "Supply pin", 7 SW (power) "Switch input pin. The node between inductor and anode of the rectifier diode is connected to this pin.", 8 NC "Not connected (TPS61000, TPS61002, TPS61003, TPS61004, TPS61005, TPS61006). A ground pin for the feedback resistor divider for the TPS61007 only.", 9 LBI (in) "Low-battery detector input. A low-battery signal is generated at the LBO pin when the voltage on LBI drops below the threshold of 500 mV. Connect LBI to GND or VBAT if the low-battery detector function is not used. Do not (See Datasheet)", 10 LBO (hiz) "Open-drain low-battery detector output. This pin is pulled low if the voltage on LBI drops below the threshold of 500 mV. A pullup resistor should be connected between LBO and VOUT."

## TPS61004DGS
designator U?
Boost Fixed Converter with 0.8 to 2.8 V Input and 2.8 V Output, -40 to 85 degC, 10-Pin MSOP (DGS), Green (RoHS & no Sb/Br); Manufacturer: Texas Instruments; PartNumber: TPS61004DGS; Preset Vout(V): 2.8; Regulated Outputs(#): 1; SubFamily: Step-Up Regulator; Switching Frequency(Max)(kHz): 840; Vin(Min)(V): 0.8; DatasheetVersion: SLVS279C; PackageVersion: revC, Feb-2004; PackageReference: DGS10; PackageDescription: 10-Pin Thin Shrink Small Outline Package 0.5 mm Pitch; Supplier 1: Digi-Key; Supplier Part Number 1: 296-3221-5-ND; Supplier 2: Newark; Supplier Part Number 2: 19C9063; Supplier 3: Mouser; Supplier Part Number 3: 595-TPS61004DGS; Eco-Plan: Green (RoHS & no Sb/Br); Topology: Boost; Vin(Max)(V): 2.8; Vout(Max)(V): 2.8; Vout(Min)(V): 2.8; Mounting Technology: Surface Mount; Code_JEDEC: MO-187-BA; ComponentLink1Description: Datasheet; ComponentLink1URL: http://www.ti.com/general/docs/lit/getliterature.tsp?genericPartNumber=TPS61004&fileType=pdf; ComponentLink2Description: Package Specification; ComponentLink2URL: http://www.ti.com/litv/pdf/mpds373
footprint DGS10_N (TSSOP, 10-Leads, Body 3x3mm, Pitch 0.5mm, IPC Medium Density)
footprint DGS10_L (TSSOP, 10-Leads, Body 3x3mm, Pitch 0.5mm, IPC High Density)
footprint DGS10_M (TSSOP, 10-Leads, Body 3x3mm, Pitch 0.5mm, IPC Low Density)
pins: 1 EN (in) "Chip-enable input. The converter is switched on if EN is set high, and is switched off when EN is connected to ground (shutdown mode).", 2 COMP "Compensation of error amplifier. Connect R-C-C network to set frequency response of control loop. See the Application section for more details.", 3 FB "The output voltage is programmed depending on the values of resistors R1 and R2. For the fixed output voltage versions (TPS61000, TPS61002, TPS61003, TPS61004, TPS61005, TPS61006), leave the FB pin unconnected", 4 GND (power) "Ground", 5 VOUT (power) "Output voltage. For the fixed output voltage versions, the integrated resistive divider is connected to this pin.", 6 VBAT (power) "Supply pin", 7 SW (power) "Switch input pin. The node between inductor and anode of the rectifier diode is connected to this pin.", 8 NC "Not connected (TPS61000, TPS61002, TPS61003, TPS61004, TPS61005, TPS61006).", 9 LBI (in) "Low-battery detector input. A low-battery signal is generated at the LBO pin when the voltage on LBI drops below the threshold of 500 mV. Connect LBI to GND or VBAT if the low-battery detector function is not used. Do not (See Datasheet)", 10 LBO (hiz) "Open-drain low-battery detector output. This pin is pulled low if the voltage on LBI drops below the threshold of 500 mV. A pullup resistor should be connected between LBO and VOUT"

## TPS61004DGSG4
designator U?
Boost Fixed Converter with 0.8 to 2.8 V Input and 2.8 V Output, -40 to 85 degC, 10-Pin MSOP (DGS), Green (RoHS & no Sb/Br); Manufacturer: Texas Instruments; PartNumber: TPS61004DGSG4; Preset Vout(V): 2.8; Regulated Outputs(#): 1; SubFamily: Step-Up Regulator; Switching Frequency(Max)(kHz): 840; Vin(Min)(V): 0.8; DatasheetVersion: SLVS279C; PackageVersion: revC, Feb-2004; PackageReference: DGS10; PackageDescription: 10-Pin Thin Shrink Small Outline Package 0.5 mm Pitch; Supplier 1: Digi-Key; Supplier Part Number 1: TPS61004DGSG4-ND; Supplier 2: Newark; Supplier Part Number 2: 24K6011; Supplier 3: Mouser; Supplier Part Number 3: 595-TPS61004DGSG4; Eco-Plan: Green (RoHS & no Sb/Br); Topology: Boost; Vin(Max)(V): 2.8; Vout(Max)(V): 2.8; Vout(Min)(V): 2.8; Mounting Technology: Surface Mount; Code_JEDEC: MO-187-BA; ComponentLink1Description: Datasheet; ComponentLink1URL: http://www.ti.com/general/docs/lit/getliterature.tsp?genericPartNumber=TPS61004&fileType=pdf; ComponentLink2Description: Package Specification; ComponentLink2URL: http://www.ti.com/litv/pdf/mpds373
footprint DGS10_N (TSSOP, 10-Leads, Body 3x3mm, Pitch 0.5mm, IPC Medium Density)
footprint DGS10_L (TSSOP, 10-Leads, Body 3x3mm, Pitch 0.5mm, IPC High Density)
footprint DGS10_M (TSSOP, 10-Leads, Body 3x3mm, Pitch 0.5mm, IPC Low Density)
pins: 1 EN (in) "Chip-enable input. The converter is switched on if EN is set high, and is switched off when EN is connected to ground (shutdown mode).", 2 COMP "Compensation of error amplifier. Connect R-C-C network to set frequency response of control loop. See the Application section for more details.", 3 FB "The output voltage is programmed depending on the values of resistors R1 and R2. For the fixed output voltage versions (TPS61000, TPS61002, TPS61003, TPS61004, TPS61005, TPS61006), leave the FB pin unconnected", 4 GND (power) "Ground", 5 VOUT (power) "Output voltage. For the fixed output voltage versions, the integrated resistive divider is connected to this pin.", 6 VBAT (power) "Supply pin", 7 SW (power) "Switch input pin. The node between inductor and anode of the rectifier diode is connected to this pin.", 8 NC "Not connected (TPS61000, TPS61002, TPS61003, TPS61004, TPS61005, TPS61006).", 9 LBI (in) "Low-battery detector input. A low-battery signal is generated at the LBO pin when the voltage on LBI drops below the threshold of 500 mV. Connect LBI to GND or VBAT if the low-battery detector function is not used. Do not (See Datasheet)", 10 LBO (hiz) "Open-drain low-battery detector output. This pin is pulled low if the voltage on LBI drops below the threshold of 500 mV. A pullup resistor should be connected between LBO and VOUT"

## TPS61005DGS
designator U?
Boost Fixed Converter with 0.8 to 3 V Input and 3 V Output, -40 to 85 degC, 10-Pin MSOP (DGS), Green (RoHS & no Sb/Br); Manufacturer: Texas Instruments; PartNumber: TPS61005DGS; Preset Vout(V): 3; Regulated Outputs(#): 1; SubFamily: Step-Up Regulator; Switching Frequency(Max)(kHz): 840; Vin(Min)(V): 0.8; DatasheetVersion: SLVS279C; PackageVersion: revC, Feb-2004; PackageReference: DGS10; PackageDescription: 10-Pin Thin Shrink Small Outline Package 0.5 mm Pitch; Supplier 1: Digi-Key; Supplier Part Number 1: 296-3222-5-ND; Supplier 2: Newark; Supplier Part Number 2: 19C9064; Supplier 3: Mouser; Supplier Part Number 3: 595-TPS61005DGS; Eco-Plan: Green (RoHS & no Sb/Br); Topology: Boost; Vin(Max)(V): 3; Vout(Max)(V): 3; Vout(Min)(V): 3; Mounting Technology: Surface Mount; Code_JEDEC: MO-187-BA; ComponentLink1Description: Datasheet; ComponentLink1URL: http://www.ti.com/general/docs/lit/getliterature.tsp?genericPartNumber=TPS61005&fileType=pdf; ComponentLink2Description: Package Specification; ComponentLink2URL: http://www.ti.com/litv/pdf/mpds373
footprint DGS10_N (TSSOP, 10-Leads, Body 3x3mm, Pitch 0.5mm, IPC Medium Density)
footprint DGS10_L (TSSOP, 10-Leads, Body 3x3mm, Pitch 0.5mm, IPC High Density)
footprint DGS10_M (TSSOP, 10-Leads, Body 3x3mm, Pitch 0.5mm, IPC Low Density)
pins: 1 EN (in) "Chip-enable input. The converter is switched on if EN is set high, and is switched off when EN is connected to ground (shutdown mode).", 2 COMP "Compensation of error amplifier. Connect R-C-C network to set frequency response of control loop. See the Application section for more details.", 3 FB "The output voltage is programmed depending on the values of resistors R1 and R2. For the fixed output voltage versions (TPS61000, TPS61002, TPS61003, TPS61004, TPS61005, TPS61006), leave the FB pin unconnected.", 4 GND (power) "Ground", 5 VOUT (power) "Output voltage. For the fixed output voltage versions, the integrated resistive divider is connected to this pin.", 6 VBAT (power) "Supply pin", 7 SW (power) "Switch input pin. The node between inductor and anode of the rectifier diode is connected to this pin.", 8 NC "Not connected (TPS61000, TPS61002, TPS61003, TPS61004, TPS61005, TPS61006).", 9 LBI (in) "Low-battery detector input. A low-battery signal is generated at the LBO pin when the voltage on LBI drops below the threshold of 500 mV. Connect LBI to GND or VBAT if the low-battery detector function is not used. Do not (See Datasheet)", 10 LBO (hiz) "Open-drain low-battery detector output. This pin is pulled low if the voltage on LBI drops below the threshold of 500 mV. A pullup resistor should be connected between LBO and VOUT."

## TPS61005DGSG4
designator U?
Boost Fixed Converter with 0.8 to 3 V Input and 3 V Output, -40 to 85 degC, 10-Pin MSOP (DGS), Green (RoHS & no Sb/Br); Manufacturer: Texas Instruments; PartNumber: TPS61005DGSG4; Preset Vout(V): 3; Regulated Outputs(#): 1; SubFamily: Step-Up Regulator; Switching Frequency(Max)(kHz): 840; Vin(Min)(V): 0.8; DatasheetVersion: SLVS279C; PackageVersion: revC, Feb-2004; PackageReference: DGS10; PackageDescription: 10-Pin Thin Shrink Small Outline Package 0.5 mm Pitch; Supplier 1: Digi-Key; Supplier Part Number 1: TPS61005DGSG4-ND; Supplier 2: Newark; Supplier Part Number 2: 24K6013; Supplier 3: Mouser; Supplier Part Number 3: 595-TPS61005DGSG4; Eco-Plan: Green (RoHS & no Sb/Br); Topology: Boost; Vin(Max)(V): 3; Vout(Max)(V): 3; Vout(Min)(V): 3; Mounting Technology: Surface Mount; Code_JEDEC: MO-187-BA; ComponentLink1Description: Datasheet; ComponentLink1URL: http://www.ti.com/general/docs/lit/getliterature.tsp?genericPartNumber=TPS61005&fileType=pdf; ComponentLink2Description: Package Specification; ComponentLink2URL: http://www.ti.com/litv/pdf/mpds373
footprint DGS10_N (TSSOP, 10-Leads, Body 3x3mm, Pitch 0.5mm, IPC Medium Density)
footprint DGS10_L (TSSOP, 10-Leads, Body 3x3mm, Pitch 0.5mm, IPC High Density)
footprint DGS10_M (TSSOP, 10-Leads, Body 3x3mm, Pitch 0.5mm, IPC Low Density)
pins: 1 EN (in) "Chip-enable input. The converter is switched on if EN is set high, and is switched off when EN is connected to ground (shutdown mode).", 2 COMP "Compensation of error amplifier. Connect R-C-C network to set frequency response of control loop. See the Application section for more details.", 3 FB "The output voltage is programmed depending on the values of resistors R1 and R2. For the fixed output voltage versions (TPS61000, TPS61002, TPS61003, TPS61004, TPS61005, TPS61006), leave the FB pin unconnected.", 4 GND (power) "Ground", 5 VOUT (power) "Output voltage. For the fixed output voltage versions, the integrated resistive divider is connected to this pin.", 6 VBAT (power) "Supply pin", 7 SW (power) "Switch input pin. The node between inductor and anode of the rectifier diode is connected to this pin.", 8 NC "Not connected (TPS61000, TPS61002, TPS61003, TPS61004, TPS61005, TPS61006).", 9 LBI (in) "Low-battery detector input. A low-battery signal is generated at the LBO pin when the voltage on LBI drops below the threshold of 500 mV. Connect LBI to GND or VBAT if the low-battery detector function is not used. Do not (See Datasheet)", 10 LBO (hiz) "Open-drain low-battery detector output. This pin is pulled low if the voltage on LBI drops below the threshold of 500 mV. A pullup resistor should be connected between LBO and VOUT."